# Altium footprint library WS2813BV5.PcbLib: 1 footprints
Each footprint in its own frame and in the unit in brackets; x right, y up, seen from the top. Pads: shape width x height; smd on the part's side, far side on the other; paste and mask are expansions set on the pad; w line width, h text height; cw(c..) or ccw(c..) is an arc to the next point about the centre after c.
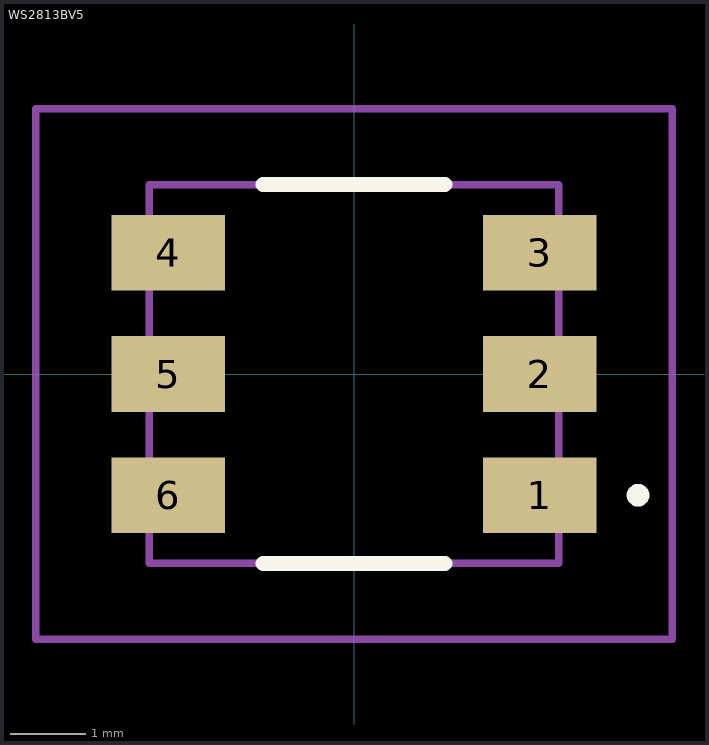
[diagram p0: the footprint, top view; thin cyan lines are the x and y axes]

## WS2813BV5 [mm]
pads (6):
  rect 1.5x1 smd: 1(2.45,-1.6) 2(2.45,0) 3(2.45,1.6) 4(-2.45,1.6) 5(-2.45,0) 6(-2.45,-1.6)
Top Overlay:
  lines w0.2: -1.2,-2.5 1.2,-2.5 ; -1.2,2.5 1.2,2.5 ; 3.7,-1.6 3.7,-1.6 ; 3.7,-1.6 ccw(c3.75,-1.6) 3.8,-1.6 ; 3.7,-1.6 cw(c3.75,-1.6) 3.8,-1.6 ; 3.7,-1.6 3.7,-1.6 ; 3.7,-1.6 ccw(c3.75,-1.6) 3.8,-1.6 ; 3.8,-1.6 3.8,-1.6
Mechanical 15:
  lines w0.1: -2.7,-2.5 2.7,-2.5 2.7,2.5 -2.7,2.5 -2.7,-2.5
Mechanical 20:
  lines w0.1: -4.2,-3.5 4.2,-3.5 4.2,3.5 -4.2,3.5 -4.2,-3.5